# EAGLE library part MSP432P401R_PZ (library DubSat1 Components)
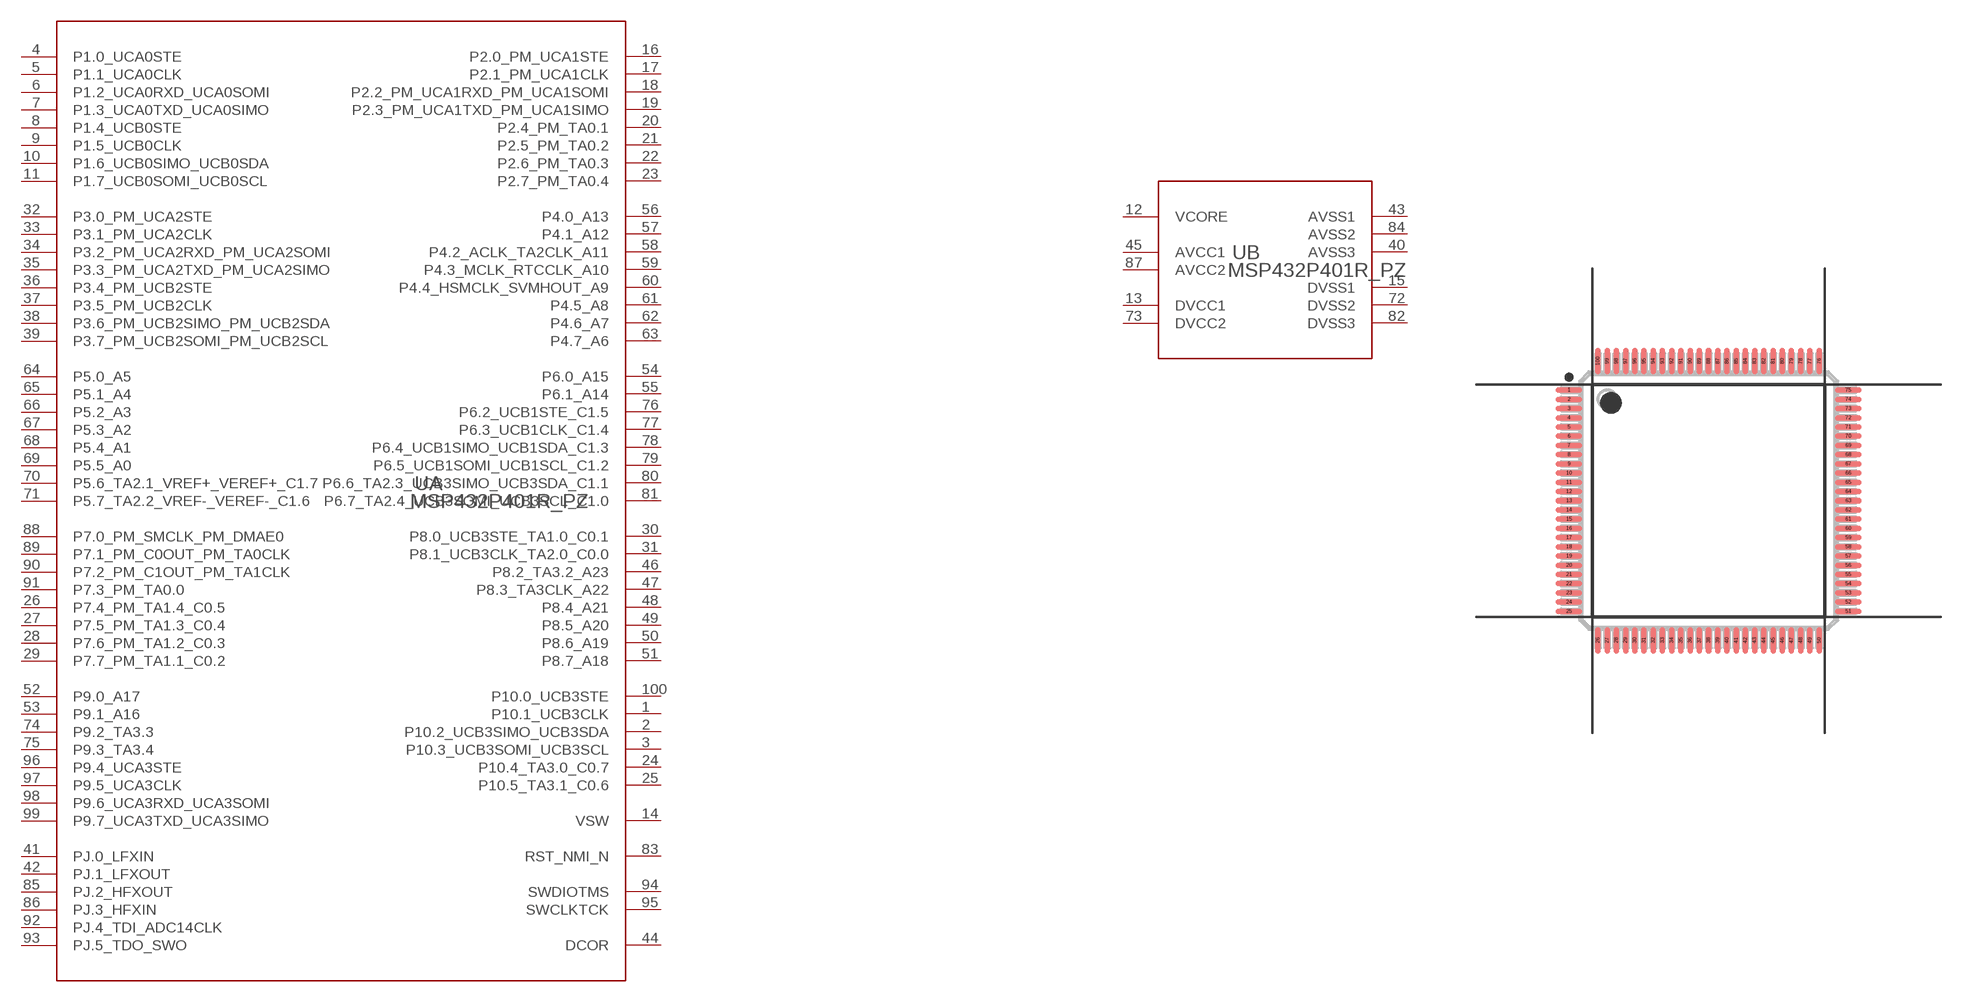
[diagram p21: symbol with the pads of PZ0100A_N; footprint PZ0100A_N]

Designator prefix U; gates A=MSP432P401R_PZ_A B=MSP432P401R_PZ_B

## MSP432P401R_PZ (COMPTYPE: IC; MANUFACTURER: Texas Instruments; MOUNTTYPE: SMT; PACKAGEREFERENCE: PZ0100A; PARTNUMBER: XMS432P401RIPZR; PIN_COUNT: 100; REFDES: RefDes; TYPE: TYPE; VALUE: Value)  [PZ0100A_N]
1  A:P10.1_UCB3CLK
2  A:P10.2_UCB3SIMO_UCB3SDA
3  A:P10.3_UCB3SOMI_UCB3SCL
4  A:P1.0_UCA0STE
5  A:P1.1_UCA0CLK
6  A:P1.2_UCA0RXD_UCA0SOMI
7  A:P1.3_UCA0TXD_UCA0SIMO
8  A:P1.4_UCB0STE
9  A:P1.5_UCB0CLK
10  A:P1.6_UCB0SIMO_UCB0SDA
11  A:P1.7_UCB0SOMI_UCB0SCL
12  B:VCORE  pwr
13  B:DVCC1  pwr
14  A:VSW  pas
15  B:DVSS1  pwr
16  A:P2.0_PM_UCA1STE
17  A:P2.1_PM_UCA1CLK
18  A:P2.2_PM_UCA1RXD_PM_UCA1SOMI
19  A:P2.3_PM_UCA1TXD_PM_UCA1SIMO
20  A:P2.4_PM_TA0.1
21  A:P2.5_PM_TA0.2
22  A:P2.6_PM_TA0.3
23  A:P2.7_PM_TA0.4
24  A:P10.4_TA3.0_C0.7
25  A:P10.5_TA3.1_C0.6
26  A:P7.4_PM_TA1.4_C0.5
27  A:P7.5_PM_TA1.3_C0.4
28  A:P7.6_PM_TA1.2_C0.3
29  A:P7.7_PM_TA1.1_C0.2
30  A:P8.0_UCB3STE_TA1.0_C0.1
31  A:P8.1_UCB3CLK_TA2.0_C0.0
32  A:P3.0_PM_UCA2STE
33  A:P3.1_PM_UCA2CLK
34  A:P3.2_PM_UCA2RXD_PM_UCA2SOMI
35  A:P3.3_PM_UCA2TXD_PM_UCA2SIMO
36  A:P3.4_PM_UCB2STE
37  A:P3.5_PM_UCB2CLK
38  A:P3.6_PM_UCB2SIMO_PM_UCB2SDA
39  A:P3.7_PM_UCB2SOMI_PM_UCB2SCL
40  B:AVSS3  pwr
41  A:PJ.0_LFXIN
42  A:PJ.1_LFXOUT
43  B:AVSS1  pwr
44  A:DCOR  pas
45  B:AVCC1  pwr
46  A:P8.2_TA3.2_A23
47  A:P8.3_TA3CLK_A22
48  A:P8.4_A21
49  A:P8.5_A20
50  A:P8.6_A19
51  A:P8.7_A18
52  A:P9.0_A17
53  A:P9.1_A16
54  A:P6.0_A15
55  A:P6.1_A14
56  A:P4.0_A13
57  A:P4.1_A12
58  A:P4.2_ACLK_TA2CLK_A11
59  A:P4.3_MCLK_RTCCLK_A10
60  A:P4.4_HSMCLK_SVMHOUT_A9
61  A:P4.5_A8
62  A:P4.6_A7
63  A:P4.7_A6
64  A:P5.0_A5
65  A:P5.1_A4
66  A:P5.2_A3
67  A:P5.3_A2
68  A:P5.4_A1
69  A:P5.5_A0
70  A:P5.6_TA2.1_VREF+_VEREF+_C1.7
71  A:P5.7_TA2.2_VREF-_VEREF-_C1.6
72  B:DVSS2  pwr
73  B:DVCC2  pwr
74  A:P9.2_TA3.3
75  A:P9.3_TA3.4
76  A:P6.2_UCB1STE_C1.5
77  A:P6.3_UCB1CLK_C1.4
78  A:P6.4_UCB1SIMO_UCB1SDA_C1.3
79  A:P6.5_UCB1SOMI_UCB1SCL_C1.2
80  A:P6.6_TA2.3_UCB3SIMO_UCB3SDA_C1.1
81  A:P6.7_TA2.4_UCB3SOMI_UCB3SCL_C1.0
82  B:DVSS3  pwr
83  A:RST_NMI_N  in
84  B:AVSS2  pwr
85  A:PJ.2_HFXOUT
86  A:PJ.3_HFXIN
87  B:AVCC2  pwr
88  A:P7.0_PM_SMCLK_PM_DMAE0
89  A:P7.1_PM_C0OUT_PM_TA0CLK
90  A:P7.2_PM_C1OUT_PM_TA1CLK
91  A:P7.3_PM_TA0.0
92  A:PJ.4_TDI_ADC14CLK
93  A:PJ.5_TDO_SWO
94  A:SWDIOTMS
95  A:SWCLKTCK  in
96  A:P9.4_UCA3STE
97  A:P9.5_UCA3CLK
98  A:P9.6_UCA3RXD_UCA3SOMI
99  A:P9.7_UCA3TXD_UCA3SIMO
100  A:P10.0_UCB3STE

## Footprint PZ0100A_N (pad centres in mm)
smd 1.45 x 0.3: 1 -7.575,6; 2 -7.575,5.5; 3 -7.575,5; 4 -7.575,4.5; 5 -7.575,4; 6 -7.575,3.5; 7 -7.575,3; 8 -7.575,2.5; 9 -7.575,2; 10 -7.575,1.5; 11 -7.575,1; 12 -7.575,0.5; 13 -7.575,0; 14 -7.575,-0.5; 15 -7.575,-1; 16 -7.575,-1.5; 17 -7.575,-2; 18 -7.575,-2.5; 19 -7.575,-3; 20 -7.575,-3.5; 21 -7.575,-4; 22 -7.575,-4.5; 23 -7.575,-5; 24 -7.575,-5.5; 25 -7.575,-6; 51 7.575,-6; 52 7.575,-5.5; 53 7.575,-5; 54 7.575,-4.5; 55 7.575,-4; 56 7.575,-3.5; 57 7.575,-3; 58 7.575,-2.5; 59 7.575,-2; 60 7.575,-1.5; 61 7.575,-1; 62 7.575,-0.5; 63 7.575,0; 64 7.575,0.5; 65 7.575,1; 66 7.575,1.5; 67 7.575,2; 68 7.575,2.5; 69 7.575,3; 70 7.575,3.5; 71 7.575,4; 72 7.575,4.5; 73 7.575,5; 74 7.575,5.5; 75 7.575,6
smd 0.3 x 1.45: 26 -6,-7.575; 27 -5.5,-7.575; 28 -5,-7.575; 29 -4.5,-7.575; 30 -4,-7.575; 31 -3.5,-7.575; 32 -3,-7.575; 33 -2.5,-7.575; 34 -2,-7.575; 35 -1.5,-7.575; 36 -1,-7.575; 37 -0.5,-7.575; 38 0,-7.575; 39 0.5,-7.575; 40 1,-7.575; 41 1.5,-7.575; 42 2,-7.575; 43 2.5,-7.575; 44 3,-7.575; 45 3.5,-7.575; 46 4,-7.575; 47 4.5,-7.575; 48 5,-7.575; 49 5.5,-7.575; 50 6,-7.575; 76 6,7.575; 77 5.5,7.575; 78 5,7.575; 79 4.5,7.575; 80 4,7.575; 81 3.5,7.575; 82 3,7.575; 83 2.5,7.575; 84 2,7.575; 85 1.5,7.575; 86 1,7.575; 87 0.5,7.575; 88 0,7.575; 89 -0.5,7.575; 90 -1,7.575; 91 -1.5,7.575; 92 -2,7.575; 93 -2.5,7.575; 94 -3,7.575; 95 -3.5,7.575; 96 -4,7.575; 97 -4.5,7.575; 98 -5,7.575; 99 -5.5,7.575; 100 -6,7.575